# Altium footprint library SR4L002.PcbLib: 1 footprints
Each footprint in its own frame and in the unit in brackets; x right, y up, seen from the top. Pads: shape width x height; smd on the part's side, far side on the other; paste and mask are expansions set on the pad; w line width, h text height; cw(c..) or ccw(c..) is an arc to the next point about the centre after c.
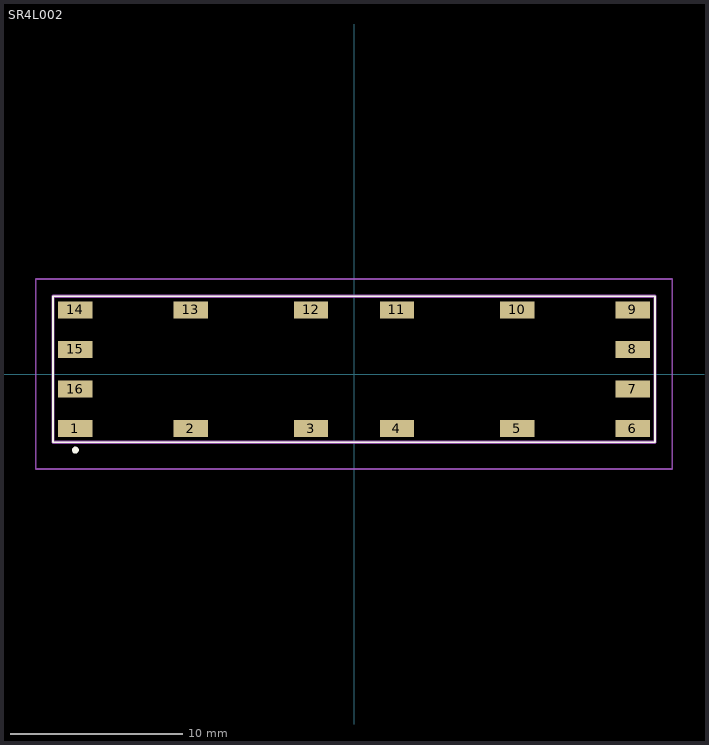
[diagram p0: the footprint, top view; thin cyan lines are the x and y axes]

## SR4L002 [mm]
pads (16):
  rect 2x1 smd: 1(-16.2,-3.175) 2(-9.5,-3.175) 3(-2.5,-3.175) 4(2.5,-3.175) 5(9.5,-3.175) 6(16.2,-3.175) 7(16.2,-0.875) 8(16.2,1.425) 9(16.2,3.725) 10(9.5,3.725) 11(2.5,3.725) 12(-2.5,3.725) 13(-9.5,3.725) 14(-16.2,3.725) 15(-16.2,1.425) 16(-16.2,-0.875)
Top Overlay:
  lines w0.1: -17.5,-3.975 17.5,-3.975 17.5,4.525 -17.5,4.525 -17.5,-3.975
  lines w0.2: -16.3,-4.425 -16.3,-4.425 ; -16.3,-4.425 cw(c-16.2,-4.425) -16.1,-4.425 ; -16.3,-4.425 ccw(c-16.2,-4.425) -16.1,-4.425 ; -16.1,-4.425 -16.1,-4.425
Mechanical 15:
  lines w0.2: -17.5,-3.975 17.5,-3.975 17.5,4.525 -17.5,4.525 -17.5,-3.975
Mechanical 20:
  lines w0.1: -18.5,-5.525 18.5,-5.525 18.5,5.525 -18.5,5.525 -18.5,-5.525